# EAGLE library part LMP91000 (library OrlandoRonMod)
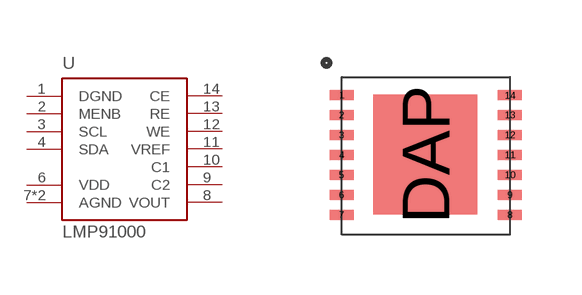
[diagram p23: symbol with the pads of WSON-14; footprint WSON-14]

Designator prefix -

## LMP91000  [WSON-14]
1  DGND
2  MENB
3  SCL
4  SDA
6  VDD
7  AGND
8  VOUT
9  C2
10  C1
11  VREF
12  WE
13  RE
14  CE
DAP  AGND

## Footprint WSON-14 (pad centres in mm)
smd 0.6 x 0.25: 1 -0.06,3.75; 2 -0.06,3.25; 3 -0.06,2.75; 4 -0.06,2.25; 5 -0.06,1.75; 6 -0.06,1.25; 7 -0.06,0.75; 8 4.15,0.75; 9 4.15,1.25; 10 4.15,1.75; 11 4.15,2.25; 12 4.15,2.75; 13 4.15,3.25; 14 4.15,3.74
smd 2.6 x 3: DAP 2.032,2.258